# Altium footprint library CAPPOL-18x40.PcbLib: 1 footprints
Each footprint in its own frame and in the unit in brackets; x right, y up, seen from the top. Pads: shape width x height; smd on the part's side, far side on the other; paste and mask are expansions set on the pad; w line width, h text height; cw(c..) or ccw(c..) is an arc to the next point about the centre after c.
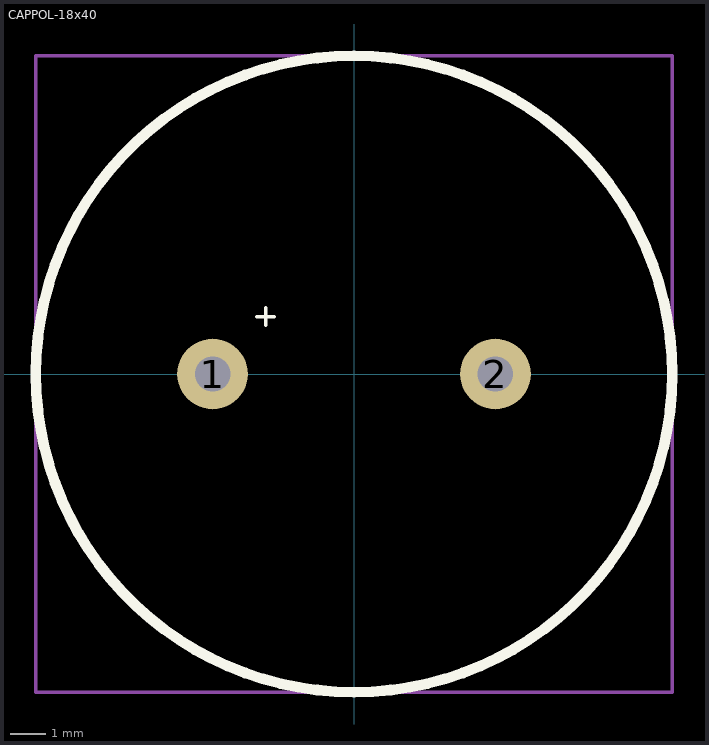
[diagram p0: the footprint, top view; thin cyan lines are the x and y axes]

## CAPPOL-18x40 [mm]
height 0.95
pads (2):
  round 2 hole 1: 1(-4,0) 2(4,0)
Top Overlay:
  circle w0.3: c0,0 r9
  lines w0.1: -2.75,1.625 -2.25,1.625 ; -2.5,1.375 -2.5,1.875
Top Assembly:
  lines w0.1: -9,-9 9,-9 9,9 -9,9 -9,-9
  text "'.Designator'" at -0.925,-0.325 h0.7